# Altium footprint library memory-samsung.PCBLIB: 3 footprints
Each footprint in its own frame and in the unit in brackets; x right, y up, seen from the top. Pads: shape width x height; smd on the part's side, far side on the other; paste and mask are expansions set on the pad; w line width, h text height; cw(c..) or ccw(c..) is an arc to the next point about the centre after c.
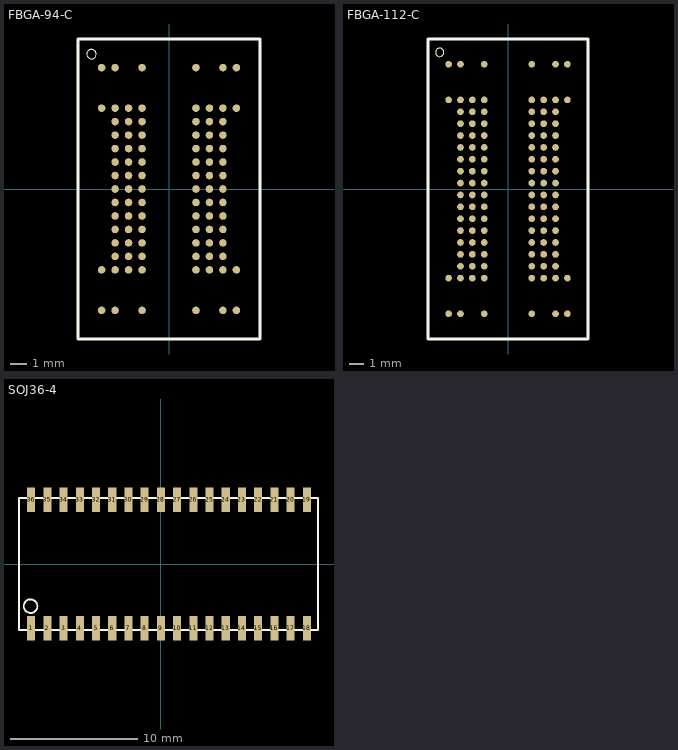
[diagram p0: the footprints below, top view; thin cyan lines are the x and y axes]

## FBGA-94-C [mm]
pads (94):
  rrect100% 0.45x0.45 smd: A1(-4,7.2) A2(-3.2,7.2) A4(-1.6,7.2) A8(1.6,7.2) A10(3.2,7.2) A11(4,7.2) D1(-4,4.8) D2(-3.2,4.8) D3(-2.4,4.8) D4(-1.6,4.8) D8(1.6,4.8) D9(2.4,4.8) D10(3.2,4.8) D11(4,4.8) E2(-3.2,4) E3(-2.4,4) E4(-1.6,4) E8(1.6,4) E9(2.4,4) E10(3.2,4) F2(-3.2,3.2) F3(-2.4,3.2) F4(-1.6,3.2) F8(1.6,3.2) F9(2.4,3.2) F10(3.2,3.2) G2(-3.2,2.4) G3(-2.4,2.4) G4(-1.6,2.4) G8(1.6,2.4) G9(2.4,2.4) G10(3.2,2.4) H2(-3.2,1.6) H3(-2.4,1.6) H4(-1.6,1.6) H8(1.6,1.6) H9(2.4,1.6) H10(3.2,1.6) J2(-3.2,0.8) J3(-2.4,0.8) J4(-1.6,0.8) J8(1.6,0.8) J9(2.4,0.8) J10(3.2,0.8) K2(-3.2,0) K3(-2.4,0) K4(-1.6,0) K8(1.6,0) K9(2.4,0) K10(3.2,0) L2(-3.2,-0.8) L3(-2.4,-0.8) L4(-1.6,-0.8) L8(1.6,-0.8) L9(2.4,-0.8) L10(3.2,-0.8) M2(-3.2,-1.6) M3(-2.4,-1.6) M4(-1.6,-1.6) M8(1.6,-1.6) M9(2.4,-1.6) M10(3.2,-1.6) N2(-3.2,-2.4) N3(-2.4,-2.4) N4(-1.6,-2.4) N8(1.6,-2.4) N9(2.4,-2.4) N10(3.2,-2.4) P2(-3.2,-3.2) P3(-2.4,-3.2) P4(-1.6,-3.2) P8(1.6,-3.2) P9(2.4,-3.2) P10(3.2,-3.2) R2(-3.2,-4) R3(-2.4,-4) R4(-1.6,-4) R8(1.6,-4) R9(2.4,-4) R10(3.2,-4) T1(-4,-4.8) T2(-3.2,-4.8) T3(-2.4,-4.8) T4(-1.6,-4.8) T8(1.6,-4.8) T9(2.4,-4.8) T10(3.2,-4.8) T11(4,-4.8) W1(-4,-7.2) W2(-3.2,-7.2) W4(-1.6,-7.2) W8(1.6,-7.2) W10(3.2,-7.2) W11(4,-7.2)
Top Overlay:
  circle w0: c-4.6,8 r0.283
  lines w0.203: -5.4,-8.9 5.4,-8.9 5.4,8.9 -5.4,8.9 -5.4,-8.9
Top Solder:
  circle w0: c-4,7.2 r0.225
  circle w0: c-4,4.8 r0.225
  circle w0: c-4,-4.8 r0.225
  circle w0: c-4,-7.2 r0.225
  circle w0: c-3.2,7.2 r0.225
  circle w0: c-3.2,4.8 r0.225
  circle w0: c-3.2,4 r0.225
  circle w0: c-3.2,3.2 r0.225
  circle w0: c-3.2,2.4 r0.225
  circle w0: c-3.2,1.6 r0.225
  circle w0: c-3.2,0.8 r0.225
  circle w0: c-3.2,0 r0.225
  circle w0: c-3.2,-0.8 r0.225
  circle w0: c-3.2,-1.6 r0.225
  circle w0: c-3.2,-2.4 r0.225
  circle w0: c-3.2,-3.2 r0.225
  circle w0: c-3.2,-4 r0.225
  circle w0: c-3.2,-4.8 r0.225
  circle w0: c-3.2,-7.2 r0.225
  circle w0: c-2.4,4.8 r0.225
  circle w0: c-2.4,4 r0.225
  circle w0: c-2.4,3.2 r0.225
  circle w0: c-2.4,2.4 r0.225
  circle w0: c-2.4,1.6 r0.225
  circle w0: c-2.4,0.8 r0.225
  circle w0: c-2.4,0 r0.225
  circle w0: c-2.4,-0.8 r0.225
  circle w0: c-2.4,-1.6 r0.225
  circle w0: c-2.4,-2.4 r0.225
  circle w0: c-2.4,-3.2 r0.225
  circle w0: c-2.4,-4 r0.225
  circle w0: c-2.4,-4.8 r0.225
  circle w0: c-1.6,7.2 r0.225
  circle w0: c-1.6,4.8 r0.225
  circle w0: c-1.6,4 r0.225
  circle w0: c-1.6,3.2 r0.225
  circle w0: c-1.6,2.4 r0.225
  circle w0: c-1.6,1.6 r0.225
  circle w0: c-1.6,0.8 r0.225
  circle w0: c-1.6,0 r0.225
  circle w0: c-1.6,-0.8 r0.225
  circle w0: c-1.6,-1.6 r0.225
  circle w0: c-1.6,-2.4 r0.225
  circle w0: c-1.6,-3.2 r0.225
  circle w0: c-1.6,-4 r0.225
  circle w0: c-1.6,-4.8 r0.225
  circle w0: c-1.6,-7.2 r0.225
  circle w0: c1.6,7.2 r0.225
  circle w0: c1.6,4.8 r0.225
  circle w0: c1.6,4 r0.225
  circle w0: c1.6,3.2 r0.225
  circle w0: c1.6,2.4 r0.225
  circle w0: c1.6,1.6 r0.225
  circle w0: c1.6,0.8 r0.225
  circle w0: c1.6,0 r0.225
  circle w0: c1.6,-0.8 r0.225
  circle w0: c1.6,-1.6 r0.225
  circle w0: c1.6,-2.4 r0.225
  circle w0: c1.6,-3.2 r0.225
  circle w0: c1.6,-4 r0.225
  circle w0: c1.6,-4.8 r0.225
  circle w0: c1.6,-7.2 r0.225
  circle w0: c2.4,4.8 r0.225
  circle w0: c2.4,4 r0.225
  circle w0: c2.4,3.2 r0.225
  circle w0: c2.4,2.4 r0.225
  circle w0: c2.4,1.6 r0.225
  circle w0: c2.4,0.8 r0.225
  circle w0: c2.4,0 r0.225
  circle w0: c2.4,-0.8 r0.225
  circle w0: c2.4,-1.6 r0.225
  circle w0: c2.4,-2.4 r0.225
  circle w0: c2.4,-3.2 r0.225
  circle w0: c2.4,-4 r0.225
  circle w0: c2.4,-4.8 r0.225
  circle w0: c3.2,7.2 r0.225
  circle w0: c3.2,4.8 r0.225
  circle w0: c3.2,4 r0.225
  circle w0: c3.2,3.2 r0.225
  circle w0: c3.2,2.4 r0.225
  circle w0: c3.2,1.6 r0.225
  circle w0: c3.2,0.8 r0.225
  circle w0: c3.2,0 r0.225
  circle w0: c3.2,-0.8 r0.225
  circle w0: c3.2,-1.6 r0.225
  circle w0: c3.2,-2.4 r0.225
  circle w0: c3.2,-3.2 r0.225
  circle w0: c3.2,-4 r0.225
  circle w0: c3.2,-4.8 r0.225
  circle w0: c3.2,-7.2 r0.225
  circle w0: c4,7.2 r0.225
  circle w0: c4,4.8 r0.225
  circle w0: c4,-4.8 r0.225
  circle w0: c4,-7.2 r0.225

## FBGA-112-C [mm]
pads (112):
  rrect100% 0.45x0.45 smd: A1(-4,8.4) A2(-3.2,8.4) A4(-1.6,8.4) A8(1.6,8.4) A10(3.2,8.4) A11(4,8.4) AB1(-4,-8.4) AB2(-3.2,-8.4) AB4(-1.6,-8.4) AB8(1.6,-8.4) AB10(3.2,-8.4) AB11(4,-8.4) D1(-4,6) D2(-3.2,6) D3(-2.4,6) D4(-1.6,6) D8(1.6,6) D9(2.4,6) D10(3.2,6) D11(4,6) E2(-3.2,5.2) E3(-2.4,5.2) E4(-1.6,5.2) E8(1.6,5.2) E9(2.4,5.2) E10(3.2,5.2) F2(-3.2,4.4) F3(-2.4,4.4) F4(-1.6,4.4) F8(1.6,4.4) F9(2.4,4.4) F10(3.2,4.4) G2(-3.2,3.6) G3(-2.4,3.6) G4(-1.6,3.6) G8(1.6,3.6) G9(2.4,3.6) G10(3.2,3.6) H2(-3.2,2.8) H3(-2.4,2.8) H4(-1.6,2.8) H8(1.6,2.8) H9(2.4,2.8) H10(3.2,2.8) J2(-3.2,2) J3(-2.4,2) J4(-1.6,2) J8(1.6,2) J9(2.4,2) J10(3.2,2) K2(-3.2,1.2) K3(-2.4,1.2) K4(-1.6,1.2) K8(1.6,1.2) K9(2.4,1.2) K10(3.2,1.2) L2(-3.2,0.4) L3(-2.4,0.4) L4(-1.6,0.4) L8(1.6,0.4) L9(2.4,0.4) L10(3.2,0.4) M2(-3.2,-0.4) M3(-2.4,-0.4) M4(-1.6,-0.4) M8(1.6,-0.4) M9(2.4,-0.4) M10(3.2,-0.4) N2(-3.2,-1.2) N3(-2.4,-1.2) N4(-1.6,-1.2) N8(1.6,-1.2) N9(2.4,-1.2) N10(3.2,-1.2) P2(-3.2,-2) P3(-2.4,-2) P4(-1.6,-2) P8(1.6,-2) P9(2.4,-2) P10(3.2,-2) R2(-3.2,-2.8) R3(-2.4,-2.8) R4(-1.6,-2.8) R8(1.6,-2.8) R9(2.4,-2.8) R10(3.2,-2.8) T2(-3.2,-3.6) T3(-2.4,-3.6) T4(-1.6,-3.6) T8(1.6,-3.6) T9(2.4,-3.6) T10(3.2,-3.6) U2(-3.2,-4.4) U3(-2.4,-4.4) U4(-1.6,-4.4) U8(1.6,-4.4) U9(2.4,-4.4) U10(3.2,-4.4) V2(-3.2,-5.2) V3(-2.4,-5.2) V4(-1.6,-5.2) V8(1.6,-5.2) V9(2.4,-5.2) V10(3.2,-5.2) W1(-4,-6) W2(-3.2,-6) W3(-2.4,-6) W4(-1.6,-6) W8(1.6,-6) W9(2.4,-6) W10(3.2,-6) W11(4,-6)
Top Overlay:
  circle w0: c-4.6,9.2 r0.283
  lines w0.203: -5.4,-10.1 5.4,-10.1 5.4,10.1 -5.4,10.1 -5.4,-10.1
Top Solder:
  circle w0: c-4,8.4 r0.225
  circle w0: c-4,6 r0.225
  circle w0: c-4,-6 r0.225
  circle w0: c-3.2,8.4 r0.225
  circle w0: c-3.2,6 r0.225
  circle w0: c-3.2,5.2 r0.225
  circle w0: c-3.2,4.4 r0.225
  circle w0: c-3.2,3.6 r0.225
  circle w0: c-3.2,2.8 r0.225
  circle w0: c-3.2,2 r0.225
  circle w0: c-3.2,1.2 r0.225
  circle w0: c-3.2,0.4 r0.225
  circle w0: c-3.2,-0.4 r0.225
  circle w0: c-3.2,-1.2 r0.225
  circle w0: c-3.2,-2 r0.225
  circle w0: c-3.2,-2.8 r0.225
  circle w0: c-3.2,-3.6 r0.225
  circle w0: c-3.2,-6 r0.225
  circle w0: c-2.4,6 r0.225
  circle w0: c-2.4,5.2 r0.225
  circle w0: c-2.4,4.4 r0.225
  circle w0: c-2.4,3.6 r0.225
  circle w0: c-2.4,2.8 r0.225
  circle w0: c-2.4,2 r0.225
  circle w0: c-2.4,1.2 r0.225
  circle w0: c-2.4,0.4 r0.225
  circle w0: c-2.4,-0.4 r0.225
  circle w0: c-2.4,-1.2 r0.225
  circle w0: c-2.4,-2 r0.225
  circle w0: c-2.4,-2.8 r0.225
  circle w0: c-2.4,-3.6 r0.225
  circle w0: c-1.6,8.4 r0.225
  circle w0: c-1.6,6 r0.225
  circle w0: c-1.6,5.2 r0.225
  circle w0: c-1.6,4.4 r0.225
  circle w0: c-1.6,3.6 r0.225
  circle w0: c-1.6,2.8 r0.225
  circle w0: c-1.6,2 r0.225
  circle w0: c-1.6,1.2 r0.225
  circle w0: c-1.6,0.4 r0.225
  circle w0: c-1.6,-0.4 r0.225
  circle w0: c-1.6,-1.2 r0.225
  circle w0: c-1.6,-2 r0.225
  circle w0: c-1.6,-2.8 r0.225
  circle w0: c-1.6,-3.6 r0.225
  circle w0: c-1.6,-6 r0.225
  circle w0: c1.6,8.4 r0.225
  circle w0: c1.6,6 r0.225
  circle w0: c1.6,5.2 r0.225
  circle w0: c1.6,4.4 r0.225
  circle w0: c1.6,3.6 r0.225
  circle w0: c1.6,2.8 r0.225
  circle w0: c1.6,2 r0.225
  circle w0: c1.6,1.2 r0.225
  circle w0: c1.6,0.4 r0.225
  circle w0: c1.6,-0.4 r0.225
  circle w0: c1.6,-1.2 r0.225
  circle w0: c1.6,-2 r0.225
  circle w0: c1.6,-2.8 r0.225
  circle w0: c1.6,-3.6 r0.225
  circle w0: c1.6,-6 r0.225
  circle w0: c2.4,6 r0.225
  circle w0: c2.4,5.2 r0.225
  circle w0: c2.4,4.4 r0.225
  circle w0: c2.4,3.6 r0.225
  circle w0: c2.4,2.8 r0.225
  circle w0: c2.4,2 r0.225
  circle w0: c2.4,1.2 r0.225
  circle w0: c2.4,0.4 r0.225
  circle w0: c2.4,-0.4 r0.225
  circle w0: c2.4,-1.2 r0.225
  circle w0: c2.4,-2 r0.225
  circle w0: c2.4,-2.8 r0.225
  circle w0: c2.4,-3.6 r0.225
  circle w0: c3.2,8.4 r0.225
  circle w0: c3.2,6 r0.225
  circle w0: c3.2,5.2 r0.225
  circle w0: c3.2,4.4 r0.225
  circle w0: c3.2,3.6 r0.225
  circle w0: c3.2,2.8 r0.225
  circle w0: c3.2,2 r0.225
  circle w0: c3.2,1.2 r0.225
  circle w0: c3.2,0.4 r0.225
  circle w0: c3.2,-0.4 r0.225
  circle w0: c3.2,-1.2 r0.225
  circle w0: c3.2,-2 r0.225
  circle w0: c3.2,-2.8 r0.225
  circle w0: c3.2,-3.6 r0.225
  circle w0: c3.2,-6 r0.225
  circle w0: c4,8.4 r0.225
  circle w0: c4,6 r0.225
  circle w0: c4,-6 r0.225
  circle w0: c-4,-8.4 r0.225
  circle w0: c-3.2,-4.4 r0.225
  circle w0: c-3.2,-5.2 r0.225
  circle w0: c-3.2,-8.4 r0.225
  circle w0: c-2.4,-4.4 r0.225
  circle w0: c-2.4,-5.2 r0.225
  circle w0: c-1.6,-4.4 r0.225
  circle w0: c-1.6,-5.2 r0.225
  circle w0: c-1.6,-8.4 r0.225
  circle w0: c1.6,-4.4 r0.225
  circle w0: c1.6,-5.2 r0.225
  circle w0: c1.6,-8.4 r0.225
  circle w0: c2.4,-4.4 r0.225
  circle w0: c2.4,-5.2 r0.225
  circle w0: c3.2,-4.4 r0.225
  circle w0: c3.2,-5.2 r0.225
  circle w0: c3.2,-8.4 r0.225
  circle w0: c4,-8.4 r0.225
  circle w0: c-2.4,-6 r0.225
  circle w0: c2.4,-6 r0.225

## SOJ36-4 [mil]
pads (36):
  rect 25x75 smd: 1(-400,-198) 2(-350,-198) 3(-300,-198) 4(-250,-198) 5(-200,-198) 6(-150,-198) 7(-100,-198) 8(-50,-198) 9(0,-198) 10(50,-198) 11(100,-198) 12(150,-198) 13(200,-198) 14(250,-198) 15(300,-198) 16(350,-198) 17(400,-198) 18(450,-198) 19(450,198) 20(400,198) 21(350,198) 22(300,198) 23(250,198) 24(200,198) 25(150,198) 26(100,198) 27(50,198) 28(0,198) 29(-50,198) 30(-100,198) 31(-150,198) 32(-200,198) 33(-250,198) 34(-300,198) 35(-350,198) 36(-400,198)
Top Overlay:
  circle w6: c-402,-130 r21
  lines w6: -437,-203 -437,203 485,203 485,-203 -437,-203
Mechanical 16:
  rectangle: 390,-225 410,-205
  rectangle: 393,-205 407,-175
  rectangle: 340,-225 360,-205
  rectangle: 343,-205 357,-175
  rectangle: 440,-225 460,-205
  rectangle: 443,-205 457,-175
  rectangle: 140,205 160,225
  rectangle: 143,175 157,205
  rectangle: 190,205 210,225
  rectangle: 193,175 207,205
  rectangle: 240,205 260,225
  rectangle: 243,175 257,205
  rectangle: 290,205 310,225
  rectangle: 293,175 307,205
  rectangle: 340,205 360,225
  rectangle: 343,175 357,205
  rectangle: 390,205 410,225
  rectangle: 393,175 407,205
  rectangle: 440,205 460,225
  rectangle: 443,175 457,205
  rectangle: -210,205 -190,225
  rectangle: -207,175 -193,205
  rectangle: -160,205 -140,225
  rectangle: -157,175 -143,205
  rectangle: -110,205 -90,225
  rectangle: -107,175 -93,205
  rectangle: -60,205 -40,225
  rectangle: -57,175 -43,205
  rectangle: -10,205 10,225
  rectangle: -7,175 7,205
  rectangle: 40,205 60,225
  rectangle: 43,175 57,205
  rectangle: 90,205 110,225
  rectangle: 93,175 107,205
  rectangle: -410,-225 -390,-205
  rectangle: -407,-205 -393,-175
  rectangle: -360,-225 -340,-205
  rectangle: -357,-205 -343,-175
  rectangle: -310,-225 -290,-205
  rectangle: -307,-205 -293,-175
  rectangle: -260,-225 -240,-205
  rectangle: -257,-205 -243,-175
  rectangle: -210,-225 -190,-205
  rectangle: -207,-205 -193,-175
  rectangle: -160,-225 -140,-205
  rectangle: -157,-205 -143,-175
  rectangle: -110,-225 -90,-205
  rectangle: -107,-205 -93,-175
  rectangle: -60,-225 -40,-205
  rectangle: -57,-205 -43,-175
  rectangle: -10,-225 10,-205
  rectangle: -7,-205 7,-175
  rectangle: 40,-225 60,-205
  rectangle: 43,-205 57,-175
  rectangle: 90,-225 110,-205
  rectangle: 93,-205 107,-175
  rectangle: 140,-225 160,-205
  rectangle: 143,-205 157,-175
  rectangle: 190,-225 210,-205
  rectangle: 193,-205 207,-175
  rectangle: 240,-225 260,-205
  rectangle: 243,-205 257,-175
  rectangle: 290,-225 310,-205
  rectangle: 293,-205 307,-175
  rectangle: -260,205 -240,225
  rectangle: -257,175 -243,205
  rectangle: -310,205 -290,225
  rectangle: -307,175 -293,205
  rectangle: -360,205 -340,225
  rectangle: -357,175 -343,205
  rectangle: -410,205 -390,225
  rectangle: -407,175 -393,205
  lines w6: 361,-203 364,-203